# EAGLE library part JS-MU3-002 (library _RoweTel)
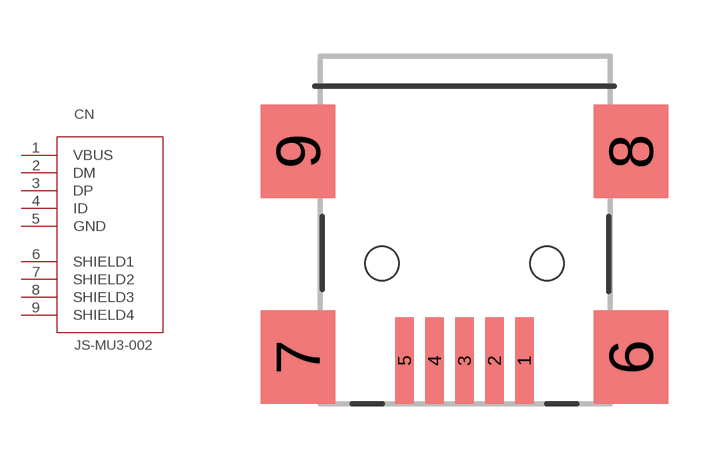
[diagram p68: symbol with the pads of JI-MU3-002; footprint JI-MU3-002]

Designator prefix CN

## JS-MU3-002  [JI-MU3-002]
1  VBUS
2  DM
3  DP
4  ID
5  GND
6  SHIELD1
7  SHIELD2
8  SHIELD3
9  SHIELD4

## Footprint JI-MU3-002 (pad centres in mm)
smd 0.5 x 2.3: 1 1.6,-2.85; 2 0.8,-2.85; 3 0,-2.85; 4 -0.8,-2.85; 5 -1.6,-2.85
smd 2 x 2.5: 6 4.45,-2.75; 7 -4.45,-2.75; 8 4.45,2.75; 9 -4.45,2.75
hole 0.9 at -2.2,-0.25
hole 0.9 at 2.2,-0.25